# EAGLE library part LTC6811-2 (library LM555-Jessica-Ly)
LTC6811-2 12 Cell Stackable Battery Monitor Datasheet <https://www.mouser.com/datasheet/2/609/LTC6811_1_6811_2-1271909.pdf>
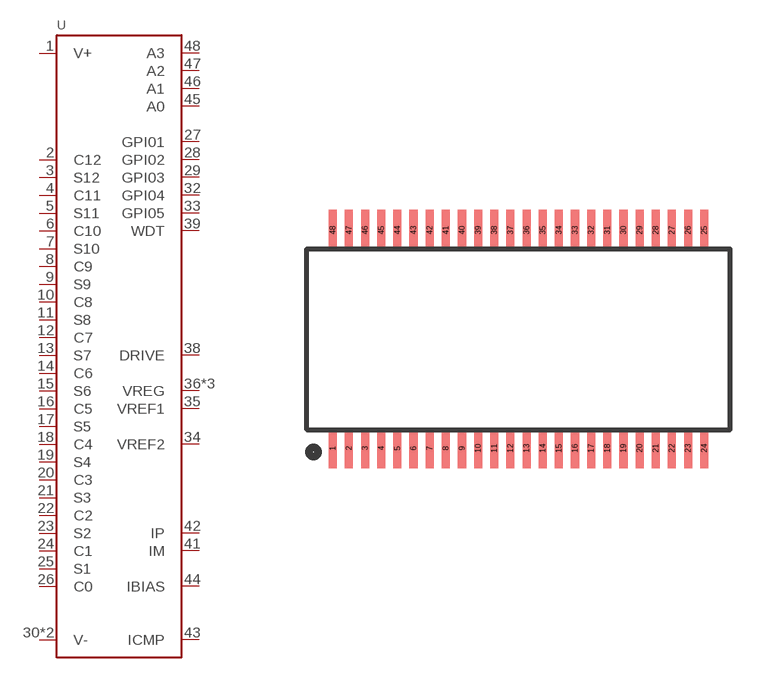
[diagram p21: symbol with the pads of SSOP-48; footprint SSOP-48]

Designator prefix U

## LTC6811-2 (DKPN: LTC6811IG-2#3ZZPBF-ND; MANUFACTURER: Analog Devices Inc.; MOPN: 584-6811IG-2#3ZZPB; MPN: LTC6811IG-2#3ZZPBF)  [SSOP-48]
1  V+  pwr
2  C12  in
3  S12
4  C11  in
5  S11
6  C10  in
7  S10
8  C9  in
9  S9
10  C8  in
11  S8
12  C7  in
13  S7
14  C6  in
15  S6
16  C5  in
17  S5
18  C4  in
19  S4
20  C3  in
21  S3
22  C2  in
23  S2
24  C1  in
25  S1
26  C0  in
27  GPI01
28  GPI02
29  GPI03
30  V-  pwr
31  V-  pwr
32  GPI04
33  GPI05
34  VREF2  pwr
35  VREF1  pwr
36  VREG  pwr
37  VREG  pwr
38  DRIVE  out
39  WDT  out
40  VREG  pwr
41  IM
42  IP
43  ICMP
44  IBIAS
45  A0  in
46  A1  in
47  A2  in
48  A3  in

## Footprint SSOP-48 (pad centres in mm)
SSOP-48 Datasheet <https://www.analog.com/media/en/package-pcb-resources/package/pkg_pdf/ltc-legacy-ssop/05081887_A_G48.pdf>
smd 0.25 x 1.25: 1 -5.75,-3.37; 2 -5.25,-3.37; 3 -4.75,-3.37; 4 -4.25,-3.37; 5 -3.75,-3.37; 6 -3.25,-3.37; 7 -2.75,-3.37; 8 -2.25,-3.37; 9 -1.75,-3.37; 10 -1.25,-3.37; 11 -0.75,-3.37; 12 -0.25,-3.37; 13 0.25,-3.37; 14 0.75,-3.37; 15 1.25,-3.37; 16 1.75,-3.37; 17 2.25,-3.37; 18 2.75,-3.37; 19 3.25,-3.37; 20 3.75,-3.37; 21 4.25,-3.37; 22 4.75,-3.37; 23 5.25,-3.37; 24 5.75,-3.37; 25 5.75,3.38; 26 5.25,3.38; 27 4.75,3.38; 28 4.25,3.38; 29 3.75,3.38; 30 3.25,3.38; 31 2.75,3.38; 32 2.25,3.38; 33 1.75,3.38; 34 1.25,3.38; 35 0.75,3.38; 36 0.25,3.38; 37 -0.25,3.38; 38 -0.75,3.38; 39 -1.25,3.38; 40 -1.75,3.38; 41 -2.25,3.38; 42 -2.75,3.38; 43 -3.25,3.38; 44 -3.75,3.38; 45 -4.25,3.38; 46 -4.75,3.38; 47 -5.25,3.38; 48 -5.75,3.38